# Altium schematic symbol library LSM303AGRTR.SchLib: 1 symbol
Pins are listed as number, name and electrical type; pins without a type are passive.

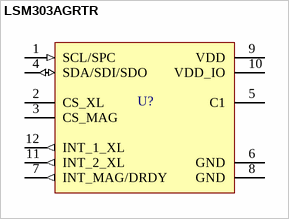
[diagram p0: symbol LSM303AGRTR]

## LSM303AGRTR
designator U?
3-axis accelerometer and 3-axis magnetometer
pins: 1 SCL/SPC (in), 2 CS_XL, 3 CS_MAG, 4 SDA/SDI/SDO (io), 5 C1, 6 GND, 7 INT_MAG/DRDY (out), 8 GND (power), 9 VDD (power), 10 VDD_IO (power), 11 INT_2_XL (out), 12 INT_1_XL (out)